# EAGLE library part 93LC56BT-I/OT (library swift-nav)
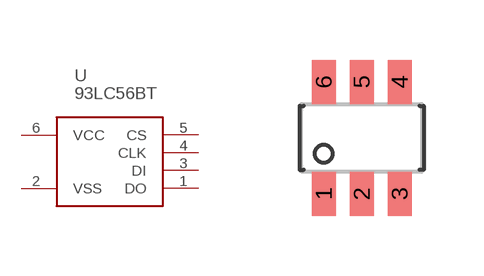
[diagram p1: symbol with the pads of 93AA56BT-I/OT; footprint 93AA56BT-I/OT]

Designator prefix -

## 93LC56BT-I/OT  [93AA56BT-I/OT]
1  DO  out
2  VSS  pwr
3  DI  in
4  CLK  in
5  CS  in
6  VCC  pwr

## Footprint 93AA56BT-I/OT (pad centres in mm)
smd 0.6 x 1.1: 1 -0.95,-1.4; 2 0,-1.4; 3 0.95,-1.4; 4 0.95,1.4; 5 0,1.4; 6 -0.95,1.4